# Altium footprint library 1455Q1602BK.PcbLib: 1 footprints
Each footprint in its own frame and in the unit in brackets; x right, y up, seen from the top. Pads: shape width x height; smd on the part's side, far side on the other; paste and mask are expansions set on the pad; w line width, h text height; cw(c..) or ccw(c..) is an arc to the next point about the centre after c.

## 1455Q1602BK [mm]
3D body "Q Extrusion 160mm.stp": height 38.9, standoff -12.6, extent -2.4,0 122.6,160